# EAGLE library part CD4013 (library LARS_409_MC)
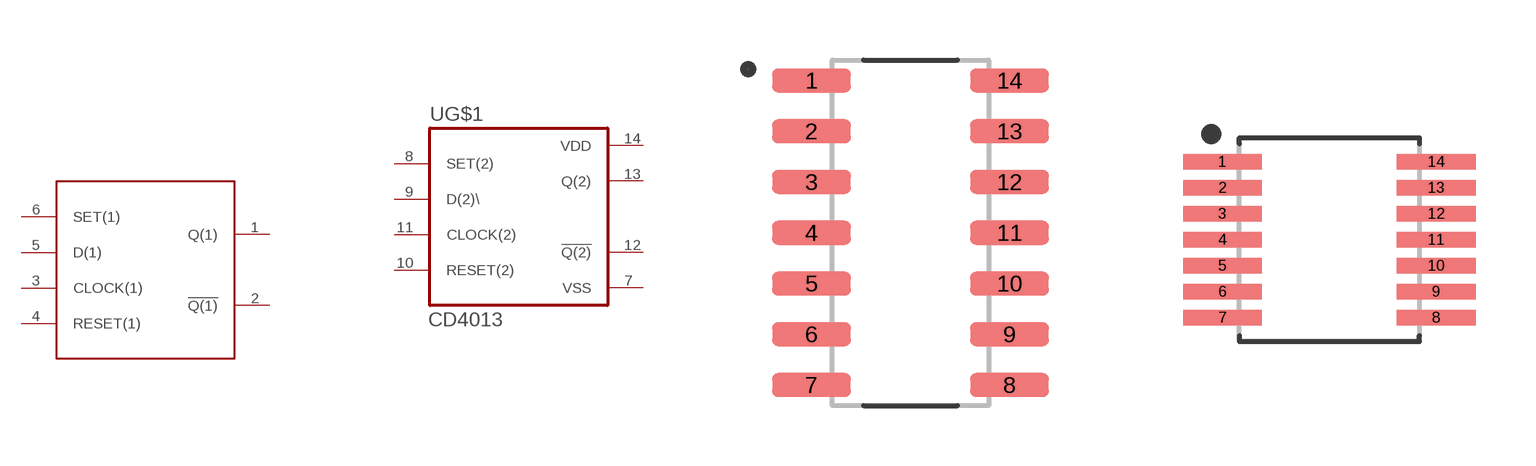
[diagram p8: symbol with the pads of SOIC-14; footprints SOIC-14, TSSOP-14]

Designator prefix U; gates G$1=CD4013/2(2) G$2=CD4013/2

## CD4013SOIC-14  [SOIC-14]
1  G$2:Q(1)  out
2  G$2:!Q(1)  out
3  G$2:CLOCK(1)  in
4  G$2:RESET(1)  in
5  G$2:D(1)  in
6  G$2:SET(1)  in
7  G$1:VSS  pwr
8  G$1:SET(2)  in
9  G$1:D(2)\  in
10  G$1:RESET(2)  in
11  G$1:CLOCK(2)  in
12  G$1:!Q(2)  out
13  G$1:Q(2)  out
14  G$1:VDD  pwr

## CD4013TSSOP-14  [TSSOP-14]
Pads as for SOIC-14

## Footprint SOIC-14 (pad centres in mm)
14-SOIC, 1.27 mm pitch, 6.00 mm span, 9.90 X 3.90 X 1.75 mm body 14-pin SOIC package with 1.27 mm pitch, 6.00 mm span with body size 9.90 X 3.90 X 1.75 mm
smd 1.97 x 0.6: 1 -2.475,3.81; 2 -2.475,2.54; 3 -2.475,1.27; 4 -2.475,0; 5 -2.475,-1.27; 6 -2.475,-2.54; 7 -2.475,-3.81; 8 2.475,-3.81; 9 2.475,-2.54; 10 2.475,-1.27; 11 2.475,0; 12 2.475,1.27; 13 2.475,2.54; 14 2.475,3.81

## Footprint TSSOP-14 (pad centres in mm)
14-SOP, 0.65 mm pitch, 6.40 mm span, 5.00 X 4.40 X 1.20 mm body 14-pin SOP package with 0.65 mm pitch, 6.40 mm span with body size 5.00 X 4.40 X 1.20 mm
smd 1.968 x 0.392: 1 -2.673,1.95; 2 -2.673,1.3; 3 -2.673,0.65; 4 -2.673,0; 5 -2.673,-0.65; 6 -2.673,-1.3; 7 -2.673,-1.95; 8 2.673,-1.95; 9 2.673,-1.3; 10 2.673,-0.65; 11 2.673,0; 12 2.673,0.65; 13 2.673,1.3; 14 2.673,1.95